# Altium footprint library HW_IPC-to-MCU-V1_V1.PcbLib: 28 footprints (part 2 of 2)
Each footprint in its own frame and in the unit in brackets; x right, y up, seen from the top. Pads: shape width x height; smd on the part's side, far side on the other; paste and mask are expansions set on the pad; w line width, h text height; cw(c..) or ccw(c..) is an arc to the next point about the centre after c.
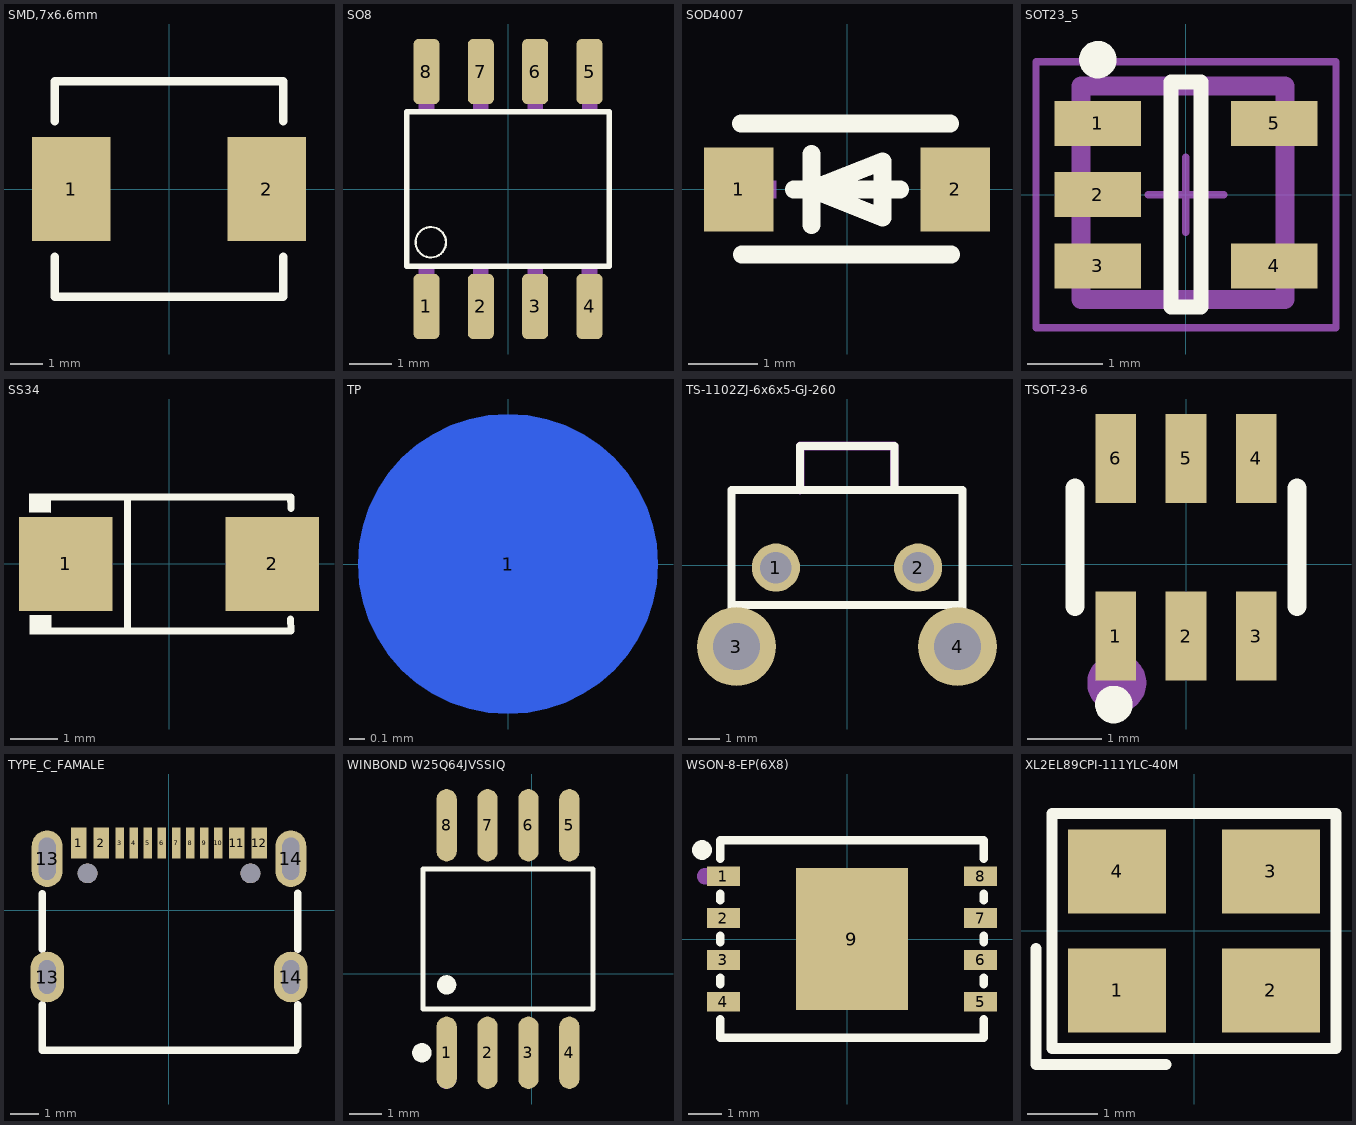
[diagram p1: the footprints below, top view; thin cyan lines are the x and y axes]

## SMD,7x6.6mm [mm]
pads (2):
  rect 2.4x3.2 smd paste+0 mask+0.051: 1(-3,0) 2(3,0)
Top Overlay:
  lines w0.254: -3.5,-2.081 -3.5,-3.3 -3.49,-3.3 3.5,-3.3 3.5,-2.081 ; -3.5,2.081 -3.5,3.3 3.48,3.3 3.5,3.28 ; 3.5,2.081 3.5,3.3
3D body "Inductor_SMD_AMPLF_0630.STEP": height 3.01, standoff 0, extent -3.65,-3.35 3.65,3.35

## SO8 [mil]
pads (8):
  rrect40% 24x60 smd: 1(-75,-108) 2(-25,-108) 3(25,-108) 4(75,-108) 5(75,108) 6(25,108) 7(-25,108) 8(-75,108)
Top Overlay:
  circle w2: c-71,-49 r14
  lines w5: -93,-71 93,-71 93,71 -93,71 -93,-71
Mechanical 13:
  region: -68,-113.07 -82.04,-113.07 -82.04,-73 -68,-73
  region: -18,-113.21 -32.01,-113.21 -32.01,-73 -18,-73
  region: 32,-113.06 18.02,-113.06 18.02,-73 32,-73
  region: 82,-113.01 68.01,-113.01 68.01,-73 82,-73
  region: -68,73.12 -82.09,73.12 -82.09,113 -68,113
  region: -18,73.08 -32.01,73.08 -32.01,113 -18,113
  region: 32,73.04 18.02,73.04 18.02,113 32,113
  region: 82,73.07 68.09,73.07 68.09,113 82,113
3D body "TJA1020.STEP": height 68.9, standoff 0, extent -96.46,-118.11 96.45,118.11

## SOD4007 [mm]
pads (2):
  rect 1x1.2 smd paste+0 mask+0.051: 1(-1.55,0) 2(1.55,0)
Top Overlay:
  lines w0.254: -1.52,0.947 1.48,0.947 ; -1.507,-0.933 1.493,-0.933 ; -0.762,0 0.762,0 ; -0.508,-0.508 -0.508,0.508 ; -0.508,0 0.508,0.406 0.508,-0.406 -0.508,0
Mechanical 15:
  region: 1.143,0.127 2.032,0.127 2.032,-0.127 1.143,-0.127
  region: 1.471,-0.436 1.471,0.453 1.725,0.453 1.725,-0.436
  region: -1.905,0.127 -1.016,0.127 -1.016,-0.127 -1.905,-0.127
3D body "SOD-123F.step": height 1.02, standoff 0, extent -1.9,-0.9 1.9,0.9

## SOT23_5 [mm]
pads (5):
  rect 1.15x0.6 smd: 1(-1.175,0.95) 2(-1.175,0) 3(-1.175,-0.95) 4(1.175,-0.95) 5(1.175,0.95)
Top Overlay:
  circle w0.25: c-1.175,1.8 r0.125
  lines w0.2: -0.2,-1.5 -0.2,1.5 0.2,1.5 0.2,-1.5 -0.2,-1.5
Top Assembly:
  lines w0.254: -1.397,-1.397 -1.397,1.448 1.321,1.448 1.321,-1.397 -1.397,-1.397
Top Component Center:
  lines w0.1: -0.5,0 0.5,0 ; 0,-0.5 0,0.5 ; -2,-1.775 2,-1.775 2,1.775 -2,1.775 -2,-1.775
3D body "User Library-SOT23-5-2.step": height 1.45, standoff 0, extent -1.4,-1.448 1.4,1.452

## SS34 [mm]
pads (2):
  rect 2x2 smd paste+0 mask+0.051: 1(-2.2,0) 2(2.2,0)
Top Overlay:
  region: -2.512,-1.096 -2.513,-1.503 -2.973,-1.498 -2.969,-1.096
  region: -2.52,1.502 -2.521,1.096 -2.981,1.1 -2.977,1.502
  lines w0.152: -2.596,-1.426 2.596,-1.426 ; -2.596,1.426 2.596,1.426 2.603,1.187 ; -0.884,-1.426 -0.884,1.426 ; 2.593,-1.176 2.6,-1.415
Mechanical 15:
  region: 2.014,-0.675 2.014,0.675 1.811,0.675 1.811,-0.675
  region: 2.29,-0.09 2.29,0.112 1.48,0.112 1.48,-0.09
  region: -2.317,-0.101 -2.317,0.101 -1.507,0.101 -1.507,-0.101
3D body "SS34A.STEP": height 2.63, standoff 0, extent -2.646,-1.29 2.494,1.27

## TP [mm]
pads (1):
  round 2 smd far side paste+0 mask+0.051: 1(0,0)

## TS-1102ZJ-6x6x5-GJ-260 [mm]
pads (4):
  round 1.524 hole 1 paste-2539.97 mask+0.051: 1(-2.25,-0.068) 2(2.25,-0.068)
  round 2.5 hole 1.5 paste-2539.97 mask+0.051: 3(-3.5,-2.568) 4(3.5,-2.568)
Top Overlay:
  lines w0.254: -3.65,-1.447 -3.65,2.382 3.65,2.382 3.65,-1.447 ; -3.65,-1.257 3.65,-1.257 ; -1.488,2.383 -1.488,3.783 1.499,3.783 ; 1.499,3.783 1.499,2.383 1.499,3.783
Mechanical 15:
  region: -1.488,2.256 -1.513,2.256 -1.56,2.275 -1.596,2.311 -1.615,2.358 -1.615,2.383 -1.615,3.783 -1.615,3.808 -1.596,3.855 -1.56,3.89 -1.513,3.91 -1.488,3.91 1.499,3.91 1.524,3.91 1.571,3.89 1.607,3.855 1.626,3.808 1.626,3.783 1.626,2.383 1.624,2.408 1.605,2.454 1.57,2.489 1.524,2.508 1.499,2.51 1.474,2.508 1.429,2.489 1.394,2.454 1.375,2.408 1.372,2.383 1.372,3.656 -1.361,3.656 -1.361,2.383 -1.361,2.358 -1.38,2.311 -1.416,2.275 -1.463,2.256
3D body "Tact Switch 6x6 mm Right Angled fun.stp": height 7.26, standoff -3.44, extent -4.2,-4.683 4.2,8.382

## TSOT-23-6 [mm]
pads (6):
  rect 0.55x1.2 smd paste+0 mask+0.051: 1(-0.95,-0.974) 2(0,-0.974) 3(0.95,-0.974) 4(0.95,1.426) 5(0,1.426) 6(-0.95,1.426)
Top Overlay:
  circle w0.254: c-0.975,-1.899 r0.127
  lines w0.254: -1.5,-0.574 -1.5,1.026 ; 1.5,-0.574 1.5,1.026
Mechanical 15:
  circle w0.4: c-0.934,-1.606 r0.2
3D body "TSOT-6.step": height 1, standoff 0, extent -1.45,-1.222 1.45,1.578

## TYPE_C_FAMALE [mm]
pads (18):
  rect 0.55x1.1 smd paste-100 mask+0.05: 1(-3.2,2.375) 2(-2.4,2.375) 11(2.4,2.375) 12(3.2,2.375)
  rect 0.3x1.1 smd paste-100 mask+0.05: 3(-1.75,2.375) 4(-1.25,2.375) 5(-0.75,2.375) 6(-0.25,2.375) 7(0.25,2.375) 8(0.75,2.375) 9(1.25,2.375) 10(1.75,2.375)
  oval 1.2x1.8 hole 0.6 slot 1.2 at 90 deg paste-2539.97 mask+0.05: 13(-4.325,-2.375) 14(4.325,-2.375)
  oval 1.1x2 hole 0.6 slot 1.5 at 90 deg paste-2539.97 mask+0.05: 13(-4.325,1.825) 14(4.325,1.825)
  round 0.7 hole 0.7 unplated paste-2539.97: ""(-2.89,1.305) ""(2.89,1.305)
Top Overlay:
  lines w0.254: -4.5,-3.356 -4.5,-4.975 4.5,-4.975 ; -4.5,-1.394 -4.5,0.594 ; 4.572,-4.826 4.572,-3.353 ; 4.572,-1.397 4.572,0.597
Top Paste:
  drawing of 16 lines, arcs and shapes, not listed
Mechanical 15:
  circle w0.25: c-2.89,1.305 r0.125
  circle w0.25: c2.89,1.305 r0.125
3D body "TypeC 16P.step": height 3.21, standoff -1.26, extent -4.575,-5.093 4.625,2.857

## WINBOND W25Q64JVSSIQ [mm]
pads (8):
  oval 0.63x2.25 smd paste+0 mask+0.051: 1(-2.644,-2.459) 2(-1.374,-2.459) 3(-0.104,-2.459) 4(1.166,-2.459) 5(1.166,4.601) 6(-0.104,4.601) 7(-1.374,4.601) 8(-2.644,4.601)
Top Overlay:
  circle w0.3: c-2.644,-0.353 r0.15
  circle w0.3: c-3.412,-2.459 r0.15
  lines w0.152: -3.378,-1.105 -3.378,3.248 1.899,3.248 1.899,-1.105 -3.378,-1.105
Mechanical 15:
  circle w0.3: c-2.644,-3.279 r0.15
3D body "SOIC-8-208MIL.stp": height 2, standoff 0, extent -3.247,-3.046 1.753,5.078

## WSON-8-EP(6X8) [mm]
pads (9):
  rect 1x0.6 smd paste+0 mask+0.05: 1(-3.75,1.905) 2(-3.75,0.635) 3(-3.75,-0.635) 4(-3.75,-1.905) 5(4.05,-1.905) 6(4.05,-0.635) 7(4.05,0.635) 8(4.05,1.905)
  rect 3.4x4.3 smd paste+0 mask+0.05: 9(0.15,0)
Top Overlay:
  circle w0.3: c-4.4,2.7 r0.15
  lines w0.254: -3.85,-2.436 -3.85,-3 4.15,-3 4.15,-2.436 ; -3.85,-1.374 -3.85,-1.166 ; -3.85,-0.104 -3.85,0.104 ; -3.85,1.166 -3.85,1.374 ; -3.85,2.436 -3.85,3 4.1,3 ; 4.15,-1.374 4.15,-1.166 ; 4.15,-0.104 4.15,0.104 ; 4.15,1.166 4.15,1.374 ; 4.15,2.436 4.15,3
Mechanical 15:
  circle w0.254: c-4.295,1.905 r0.127
3D body "WSON-8-EP(5x6).step": height 0.41, standoff -0.4, extent -2.873,-2.481 3.127,2.519

## XL2EL89CPI-111YLC-40M [mm]
pads (4):
  rect 1.4x1.2 smd paste+0 mask+0.051: 1(-1.1,-0.85) 2(1.1,-0.85) 3(1.1,0.85) 4(-1.1,0.85)
Top Overlay:
  lines w0.152: -2.257,-0.25 -2.257,-1.907 -0.4,-1.907 ; -2.029,-1.679 2.029,-1.679 2.029,1.679 -2.029,1.679 -2.029,-1.679
Mechanical 15:
  circle w0.254: c-1.27,-0.889 r0.127
3D body "3225 SMD Crystal Oscillator.step": height 0.68, standoff -0.02, extent -1.6,-1.255 1.6,1.245